# EAGLE library part 15POL_GERADE_M (library Honda2-0)
Honda Steckverbinder 15Pol gerade m FKP xM
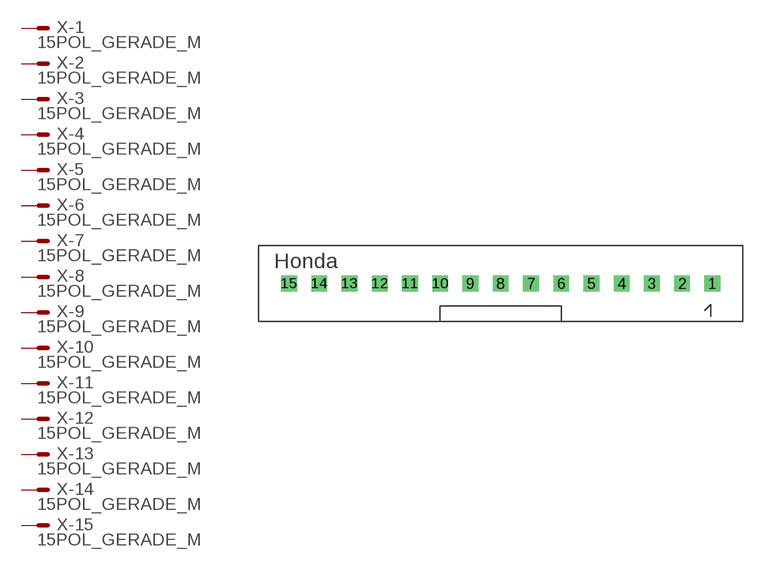
[diagram p2: symbol with the pads of 15POL_GERADE; footprint 15POL_GERADE]

Designator prefix X; gates -1=M -2=M -3=M -4=M -5=M -6=M -7=M -8=M -9=M -10=M -11=M -12=M -13=M -14=M -15=M

## 15POL_GERADE_M'  [15POL_GERADE]
1  -1:S  pas
2  -2:S  pas
3  -3:S  pas
4  -4:S  pas
5  -5:S  pas
6  -6:S  pas
7  -7:S  pas
8  -8:S  pas
9  -9:S  pas
10  -10:S  pas
11  -11:S  pas
12  -12:S  pas
13  -13:S  pas
14  -14:S  pas
15  -15:S  pas

## Footprint 15POL_GERADE (pad centres in mm)
Honda Steckverbinder 15Pol gerade m FKP xM
drill 0.813 square: 1 38.1,2.54; 2 35.56,2.54; 3 33.02,2.54; 4 30.48,2.54; 5 27.94,2.54; 6 25.4,2.54; 7 22.86,2.54; 8 20.32,2.54; 9 17.78,2.54; 10 15.24,2.54; 11 12.7,2.54; 12 10.16,2.54; 13 7.62,2.54; 14 5.08,2.54; 15 2.54,2.54